# Altium schematic symbol library MBT3906DW1T1G .Schlib: 1 symbol
Pins are listed as number, name and electrical type; pins without a type are passive.

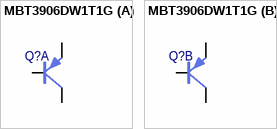
[diagram p0: symbol MBT3906DW1T1G]

## MBT3906DW1T1G
designator Q?  (value not drawn)
part A pins: 3 C1, 4 E1, 5 B1
part B pins: 1 E2, 2 B2, 6 C2